# EAGLE library part TEA5767 (library Miszczo)
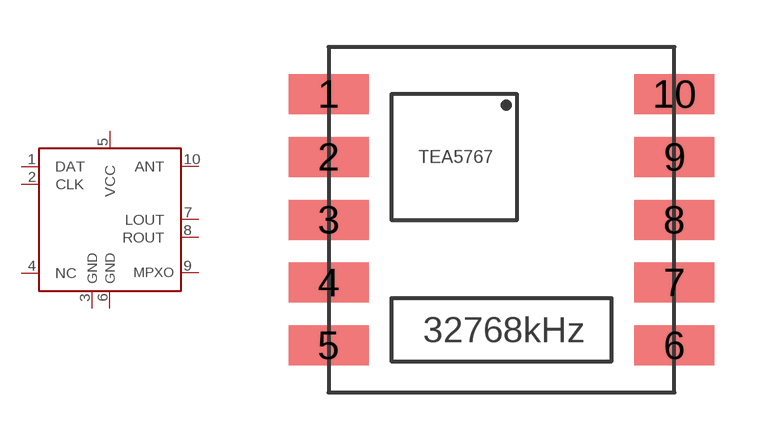
[diagram p3: symbol with the pads of TEA5767; footprint TEA5767]

Designator prefix U

## TEA5767  [TEA5767]
1  DAT
2  CLK
3  GND
4  NC
5  VCC
6  GND2
7  LOUT
8  ROUT
9  GND3
10  ANT

## Footprint TEA5767 (pad centres in mm)
smd 2.54 x 1.27: 1 -5.5,4; 2 -5.5,2; 3 -5.5,0; 4 -5.5,-2; 5 -5.5,-4; 6 5.5,-4; 7 5.5,-2; 8 5.5,0; 9 5.5,2; 10 5.5,4